# Altium schematic symbol library LED.Schlib: 8 symbols
Pins are listed as number, name and electrical type; pins without a type are passive.

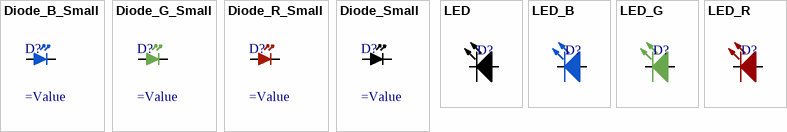
[diagram p0: symbols Diode_B_Small to LED_R]

## Diode_B_Small
designator D?
pins: 1 A, 2 K

## Diode_G_Small
designator D?
pins: 1 A, 2 K

## Diode_R_Small
designator D?
pins: 1 A, 2 K

## Diode_Small
designator D?
pins: 1 A, 2 K

## LED
designator D?
pins: 1 A, 2 K

## LED_B
designator D?
pins: 1 A, 2 K

## LED_G
designator D?
pins: 1 A, 2 K

## LED_R
designator D?
pins: 1 A, 2 K